# Altium schematic symbol library schematic.SchLib: 5 symbols
Pins are listed as number, name and electrical type; pins without a type are passive.

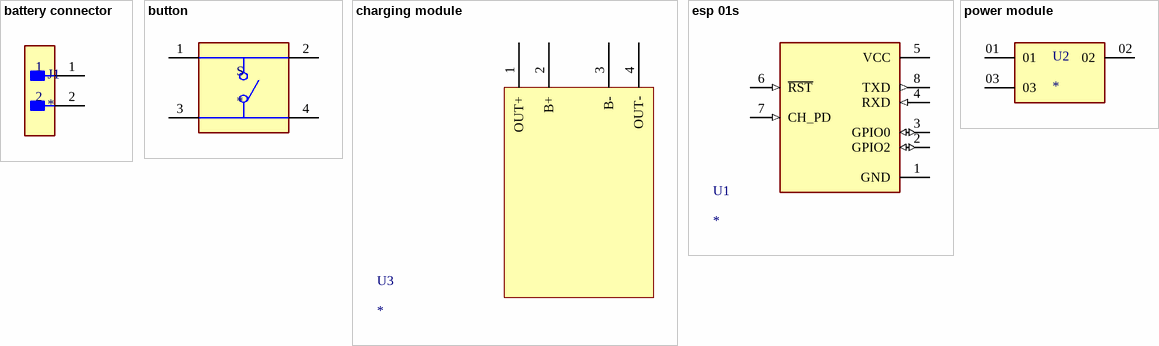
[diagram p0: symbols battery connector to power module]

## battery connector
designator J1
footprint battery connector
pins: 1, 2

## button
designator S
footprint button
pins: 1, 2, 3, 4

## charging module
designator U3
footprint charging module
pins: 1 OUT+, 2 B+, 3 B-, 4 OUT-

## esp 01s
designator U1
footprint esp 01s
pins: 1 GND (power), 2 GPIO2 (io), 3 GPIO0 (io), 4 RXD (in), 5 VCC (power), 6 ~{RST} (in), 7 CH_PD (in), 8 TXD (out)

## power module
designator U2
footprint power module
pins: 01, 02, 03